# EAGLE library part 4X03 (library magzor-connectors)
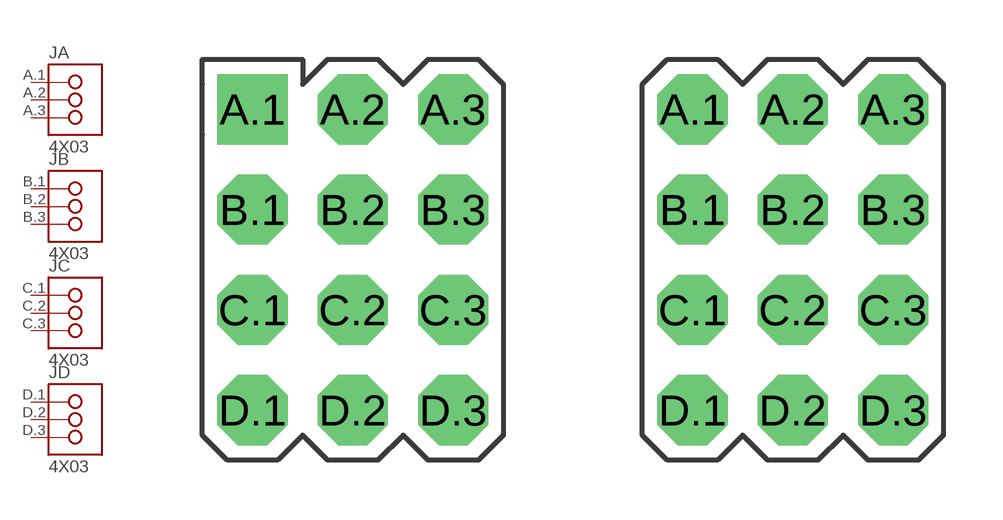
[diagram p9: symbol with the pads of P0.1IN-4X03-1SQ; footprints P0.1IN-4X03-1SQ, P0.1IN-4X03]

Designator prefix J; gates A=1X03 B=1X03 C=1X03 D=1X03

## 4X03-0.1IN-1SQ  [P0.1IN-4X03-1SQ]
A.1  A:1
A.2  A:2
A.3  A:3
B.1  B:1
B.2  B:2
B.3  B:3
C.1  C:1
C.2  C:2
C.3  C:3
D.1  D:1
D.2  D:2
D.3  D:3

## 4X03-0.1IN  [P0.1IN-4X03]
Pads as for P0.1IN-4X03-1SQ

## 4X03-0.1IN-RA  [P0.1IN-4X03-RA]
Pads as for P0.1IN-4X03-1SQ

## Footprint P0.1IN-4X03-1SQ (pad centres in mm)
drill 0.965 pad 1.778 square: A.1 -2.54,3.81
drill 0.965 pad 1.778 octagon: A.2 0,3.81; A.3 2.54,3.81; B.1 -2.54,1.27; B.2 0,1.27; B.3 2.54,1.27; C.1 -2.54,-1.27; C.2 0,-1.27; C.3 2.54,-1.27; D.1 -2.54,-3.81; D.2 0,-3.81; D.3 2.54,-3.81

## Footprint P0.1IN-4X03 (pad centres in mm)
drill 0.965 pad 1.778 octagon: A.1 -2.54,3.81; A.2 0,3.81; A.3 2.54,3.81; B.1 -2.54,1.27; B.2 0,1.27; B.3 2.54,1.27; C.1 -2.54,-1.27; C.2 0,-1.27; C.3 2.54,-1.27; D.1 -2.54,-3.81; D.2 0,-3.81; D.3 2.54,-3.81

## Footprint P0.1IN-4X03-RA (pad centres in mm)
drill 0.965 pad 1.778 square: A.1 -3.81,-2.54
drill 0.965 pad 1.778 octagon: A.2 -3.81,0; A.3 -3.81,2.54; B.1 -1.27,-2.54; B.2 -1.27,0; B.3 -1.27,2.54; C.1 1.27,-2.54; C.2 1.27,0; C.3 1.27,2.54; D.1 3.81,-2.54; D.2 3.81,0; D.3 3.81,2.54